# Altium footprint library PcbLib11.PcbLib: 1 footprints
Each footprint in its own frame and in the unit in brackets; x right, y up, seen from the top. Pads: shape width x height; smd on the part's side, far side on the other; paste and mask are expansions set on the pad; w line width, h text height; cw(c..) or ccw(c..) is an arc to the next point about the centre after c.
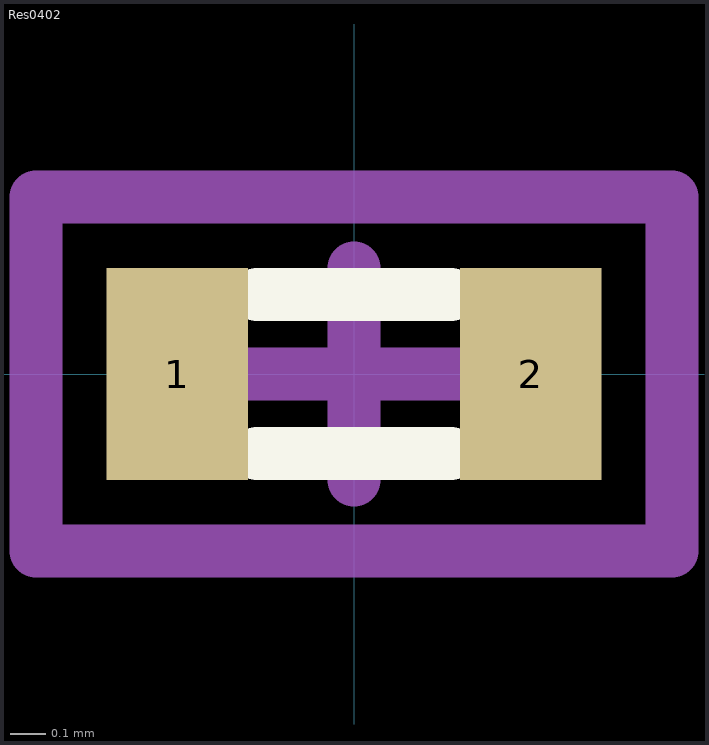
[diagram p0: the footprint, top view; thin cyan lines are the x and y axes]

## Res0402 [mm]
pads (2):
  rect 0.4x0.6 smd: 1(-0.5,0) 2(0.5,0)
Top Overlay:
  lines w0.15: -0.275,-0.225 0.275,-0.225 ; -0.275,0.225 0.275,0.225
Mechanical 15:
  lines w0.15: -0.3,0 0.3,0 ; 0,-0.3 0,0.3 ; -0.9,-0.5 0.9,-0.5 0.9,0.5 -0.9,0.5 -0.9,-0.5
3D body "0402R.STEP": height 0.34, standoff 0, extent -0.52,-0.3 0.52,0.3